# EAGLE library part STEVAL-MKIT01V1 (library Control Cluster Rocket)
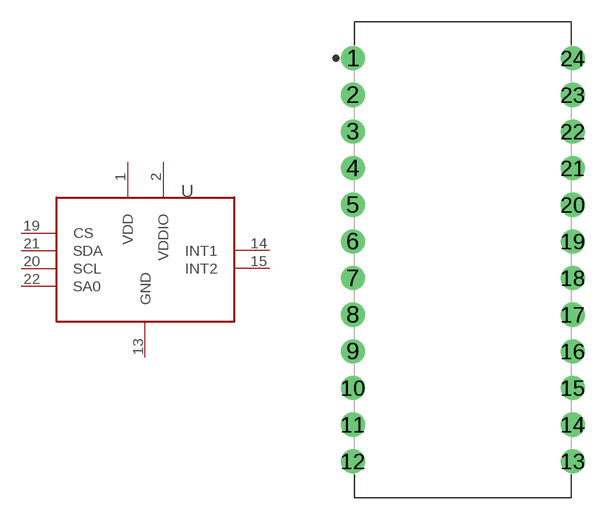
[diagram p0: symbol with the pads of DIP1524W53P254L3302H1000Q24B; footprint DIP1524W53P254L3302H1000Q24B]

Designator prefix U

## STEVAL-MKIT01V1  [DIP1524W53P254L3302H1000Q24B]
1  VDD  pwr
2  VDDIO  pwr
13  GND  pas
14  INT1
15  INT2
19  CS
20  SCL
21  SDA
22  SA0

## Footprint DIP1524W53P254L3302H1000Q24B (pad centres in mm)
24-DIP, 2.54 mm (0.10 in) pitch, 15.24 mm (0.60 in) span, 33.02 X 15.00 X 10.00 mm body 24-pin DIP package with 2.54 mm (0.10 in) pitch, 15.24 mm (0.60 in) span with body size 33.02 X 15.00 X 10.00 mm
drill 1 pad 1.676: 1 -7.62,13.97; 2 -7.62,11.43; 3 -7.62,8.89; 4 -7.62,6.35; 5 -7.62,3.81; 6 -7.62,1.27; 7 -7.62,-1.27; 8 -7.62,-3.81; 9 -7.62,-6.35; 10 -7.62,-8.89; 11 -7.62,-11.43; 12 -7.62,-13.97; 13 7.62,-13.97; 14 7.62,-11.43; 15 7.62,-8.89; 16 7.62,-6.35; 17 7.62,-3.81; 18 7.62,-1.27; 19 7.62,1.27; 20 7.62,3.81; 21 7.62,6.35; 22 7.62,8.89; 23 7.62,11.43; 24 7.62,13.97